# EAGLE library part AXK3S30035 (library MAX9812)
Matsushita P6 NARROW-PITCH CONNECTORS FOR PC BOARDS 30Pin Socket NARROW-PITCH (0.6mm) CONNECTORS P6 SERIES FEATURES The product lineup consists of the low profile of: - 4 mm - 5 mm - 6 mm - 7 mm - 8 mm - 9 mm APPLICATIONS Small portable equipment, laptop computers, video equipment, radio communication, cellular telephones, etc. Please send any comments to: messi@users.sourceforge.net
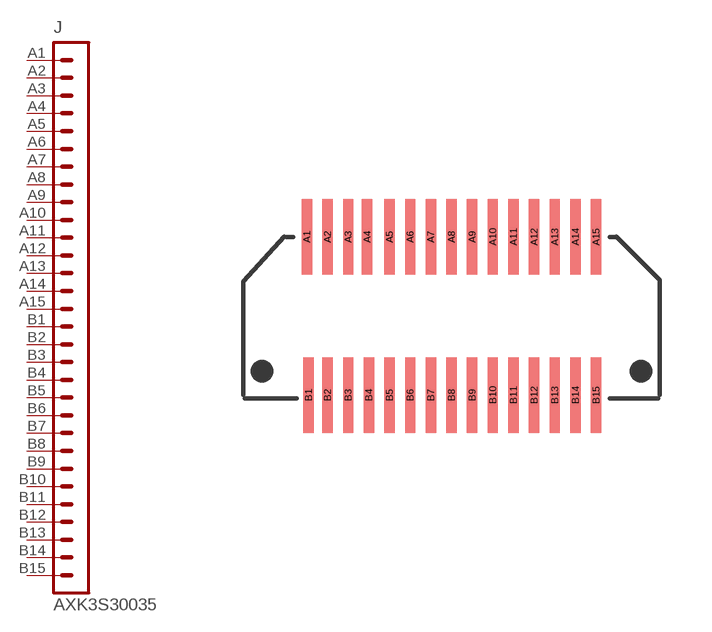
[diagram p2: symbol with the pads of AXK3S30035; footprint AXK3S30035]

Designator prefix J

## AXK3S30035  [AXK3S30035]
A1  1  pas
A2  2  pas
A3  3  pas
A4  4  pas
A5  5  pas
A6  6  pas
A7  7  pas
A8  8  pas
A9  9  pas
A10  10  pas
A11  11  pas
A12  12  pas
A13  13  pas
A14  14  pas
A15  15  pas
B1  16  pas
B2  17  pas
B3  18  pas
B4  19  pas
B5  20  pas
B6  21  pas
B7  22  pas
B8  23  pas
B9  24  pas
B10  25  pas
B11  26  pas
B12  27  pas
B13  28  pas
B14  29  pas
B15  30  pas

## Footprint AXK3S30035 (pad centres in mm)
Matsushita NARROW-PITCH CONNECTORS FOR PC BOARDS 30Pin Socket NARROW-PITCH (0.6mm) CONNECTORS P6 SERIES FEATURES The product lineup consists of the low profile of: - 4 mm - 5 mm - 6 mm - 7 mm - 8 mm - 9 mm APPLICATIONS Small portable equipment, laptop computers, video equipment, radio communication, cellular telephones, etc. Please send any comments to: messi@users.sourceforge.net
smd 0.3 x 2.2: A1 -4.2,2.3; A2 -3.6,2.3; A3 -3,2.3; A4 -2.45,2.3; A5 -1.8,2.3; A6 -1.2,2.3; A7 -0.6,2.3; A8 0,2.3; A9 0.6,2.3; A10 1.2,2.3; A11 1.8,2.3; A12 2.4,2.3; A13 3,2.3; A14 3.6,2.3; A15 4.2,2.3; B1 -4.15,-2.3; B2 -3.6,-2.3; B3 -3,-2.3; B4 -2.4,-2.3; B5 -1.8,-2.3; B6 -1.2,-2.3; B7 -0.6,-2.3; B8 0,-2.3; B9 0.6,-2.3; B10 1.2,-2.3; B11 1.8,-2.3; B12 2.4,-2.3; B13 3,-2.3; B14 3.6,-2.3; B15 4.2,-2.3